# EAGLE library part ACS709LLFTR-20BB-T (library ICs)
High Bandwidth, Fast Fault Response Current Sensor IC
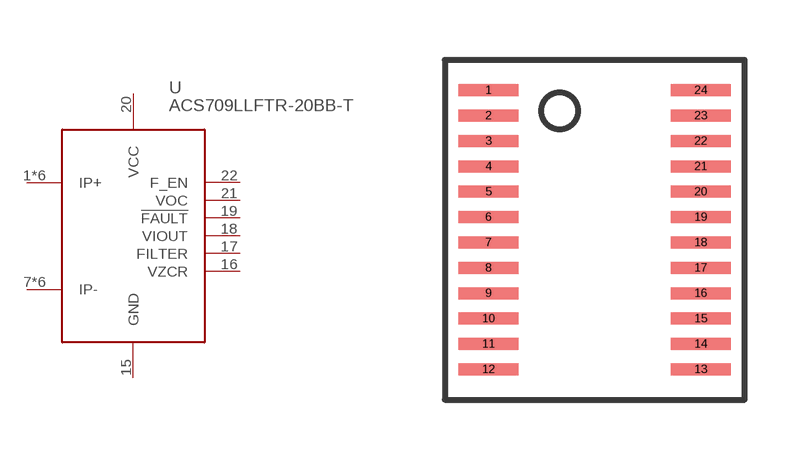
[diagram p53: symbol with the pads of QSOP24; footprint QSOP24]

Designator prefix U

## ACS709LLFTR-20BB-T (FARNELL: 1858083)  [QSOP24]
1  IP+
2  IP+
3  IP+
4  IP+
5  IP+
6  IP+
7  IP-
8  IP-
9  IP-
10  IP-
11  IP-
12  IP-
15  GND
16  VZCR
17  FILTER
18  VIOUT
19  !FAULT
20  VCC
21  VOC
22  F_EN

## Footprint QSOP24 (pad centres in mm)
smd 1.5 x 0.3: 1 -2.655,3.493; 2 -2.655,2.857; 3 -2.655,2.223; 4 -2.655,1.587; 5 -2.655,0.953; 6 -2.655,0.318; 7 -2.655,-0.318; 8 -2.655,-0.953; 9 -2.655,-1.587; 10 -2.655,-2.223; 11 -2.655,-2.857; 12 -2.655,-3.493; 13 2.655,-3.493; 14 2.655,-2.857; 15 2.655,-2.223; 16 2.655,-1.587; 17 2.655,-0.953; 18 2.655,-0.318; 19 2.655,0.318; 20 2.655,0.953; 21 2.655,1.587; 22 2.655,2.223; 23 2.655,2.857; 24 2.655,3.493